# EAGLE library part MCP33131-05 (library monitoring_board)
Microchip -- MCP33131/21/11-XX -- 1Msps/500kSPS 16/14/12-Bit Single-Ended Input SAR ADC Modell: MCP33131-05 -- 500kSPS 16-Bit
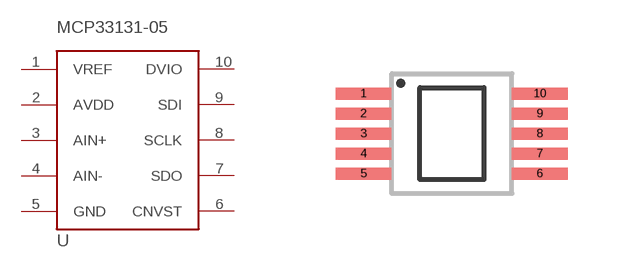
[diagram p0: symbol with the pads of MCP33131-05; footprint MCP33131-05]

Designator prefix -

## MCP33131-05  [MCP33131-05]
1  VREF
2  AVDD
3  AIN+
4  AIN-
5  GND
6  CNVST
7  SDO
8  SCLK
9  SDI
10  DVIO

## Footprint MCP33131-05 (pad centres in mm)
smd 1.4 x 0.3: 1 -2.18,1.04; 2 -2.18,0.54; 3 -2.18,0.04; 4 -2.18,-0.46; 5 -2.18,-0.96; 6 2.23,-0.96; 7 2.23,-0.46; 8 2.23,0.04; 9 2.23,0.54; 10 2.23,1.04